# EAGLE library part M06 (library KwanSystems)
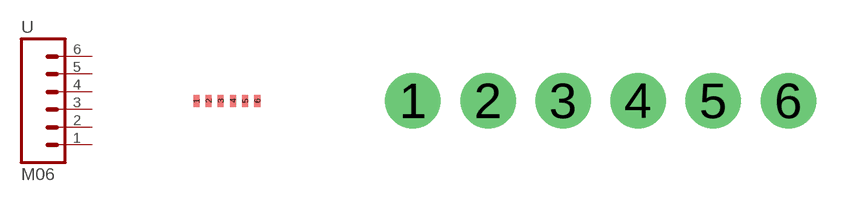
[diagram p7: symbol with the pads of M06_INTERFACE; footprints M06_INTERFACE, M06SIP]

Designator prefix -

## M06  [M06_INTERFACE]
1  1  pas
2  2  pas
3  3  pas
4  4  pas
5  5  pas
6  6  pas

## M06NOSILK  [M06SIP]
Pads as for M06_INTERFACE

## Footprint M06_INTERFACE (pad centres in mm)
smd 0.152 x 0.305: 1 0,0; 2 0.305,0; 3 0.61,0; 4 0.914,0; 5 1.219,0; 6 1.524,0

## Footprint M06SIP (pad centres in mm)
drill 1.016 pad 1.88: 1 0,0; 2 2.54,0; 3 5.08,0; 4 7.62,0; 5 10.16,0; 6 12.7,0